# Altium footprint library Texas Instruments Footprints.PcbLib: 429 footprints (part 3 of 32)
Each footprint in its own frame and in the unit in brackets; x right, y up, seen from the top. Pads: shape width x height; smd on the part's side, far side on the other; paste and mask are expansions set on the pad; w line width, h text height; cw(c..) or ccw(c..) is an arc to the next point about the centre after c.
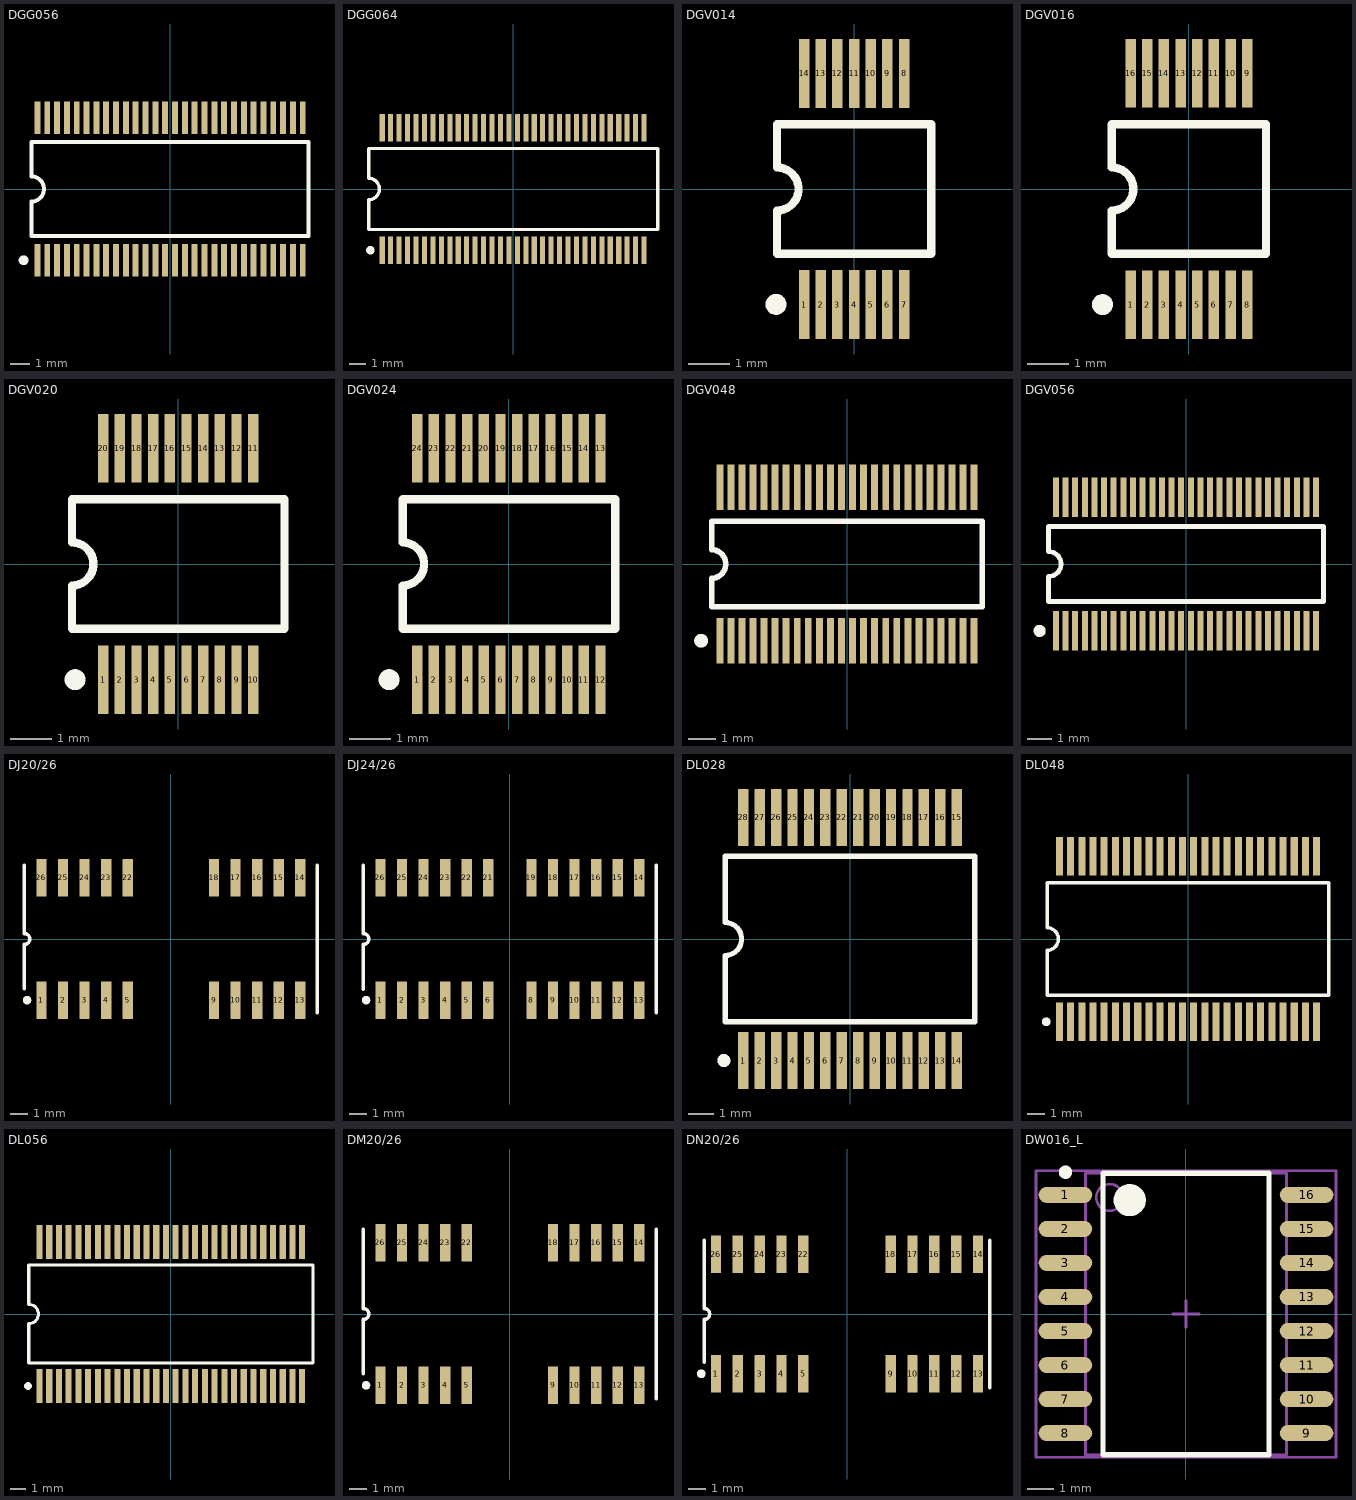
[diagram p2: the footprints below, top view; thin cyan lines are the x and y axes]

## DGG056 [mm] "Shrink Small Outline; 56 Leads; Body Width 6.1 mm; Pitch 0.5 mm"
height 1.2
pads (56):
  rect 0.3x1.65 smd: 1(-6.75,-3.625) 2(-6.25,-3.625) 3(-5.75,-3.625) 4(-5.25,-3.625) 5(-4.75,-3.625) 6(-4.25,-3.625) 7(-3.75,-3.625) 8(-3.25,-3.625) 9(-2.75,-3.625) 10(-2.25,-3.625) 11(-1.75,-3.625) 12(-1.25,-3.625) 13(-0.75,-3.625) 14(-0.25,-3.625) 15(0.25,-3.625) 16(0.75,-3.625) 17(1.25,-3.625) 18(1.75,-3.625) 19(2.25,-3.625) 20(2.75,-3.625) 21(3.25,-3.625) 22(3.75,-3.625) 23(4.25,-3.625) 24(4.75,-3.625) 25(5.25,-3.625) 26(5.75,-3.625) 27(6.25,-3.625) 28(6.75,-3.625) 29(6.75,3.625) 30(6.25,3.625) 31(5.75,3.625) 32(5.25,3.625) 33(4.75,3.625) 34(4.25,3.625) 35(3.75,3.625) 36(3.25,3.625) 37(2.75,3.625) 38(2.25,3.625) 39(1.75,3.625) 40(1.25,3.625) 41(0.75,3.625) 42(0.25,3.625) 43(-0.25,3.625) 44(-0.75,3.625) 45(-1.25,3.625) 46(-1.75,3.625) 47(-2.25,3.625) 48(-2.75,3.625) 49(-3.25,3.625) 50(-3.75,3.625) 51(-4.25,3.625) 52(-4.75,3.625) 53(-5.25,3.625) 54(-5.75,3.625) 55(-6.25,3.625) 56(-6.75,3.625)
Top Overlay:
  circle w0.25: c-7.45,-3.625 r0.125
  lines w0.2: -7.05,-2.4 -7.05,-0.635 ccw(c-7.05,0) -7.05,0.635 -7.05,2.4 7.05,2.4 7.05,-2.4 -7.05,-2.4

## DGG064 [mm] "Shrink Small Outline; 64 Leads; Body Width 6.1 mm; Pitch 0.5 mm"
height 1.2
pads (64):
  rect 0.3x1.65 smd: 1(-7.75,-3.625) 2(-7.25,-3.625) 3(-6.75,-3.625) 4(-6.25,-3.625) 5(-5.75,-3.625) 6(-5.25,-3.625) 7(-4.75,-3.625) 8(-4.25,-3.625) 9(-3.75,-3.625) 10(-3.25,-3.625) 11(-2.75,-3.625) 12(-2.25,-3.625) 13(-1.75,-3.625) 14(-1.25,-3.625) 15(-0.75,-3.625) 16(-0.25,-3.625) 17(0.25,-3.625) 18(0.75,-3.625) 19(1.25,-3.625) 20(1.75,-3.625) 21(2.25,-3.625) 22(2.75,-3.625) 23(3.25,-3.625) 24(3.75,-3.625) 25(4.25,-3.625) 26(4.75,-3.625) 27(5.25,-3.625) 28(5.75,-3.625) 29(6.25,-3.625) 30(6.75,-3.625) 31(7.25,-3.625) 32(7.75,-3.625) 33(7.75,3.625) 34(7.25,3.625) 35(6.75,3.625) 36(6.25,3.625) 37(5.75,3.625) 38(5.25,3.625) 39(4.75,3.625) 40(4.25,3.625) 41(3.75,3.625) 42(3.25,3.625) 43(2.75,3.625) 44(2.25,3.625) 45(1.75,3.625) 46(1.25,3.625) 47(0.75,3.625) 48(0.25,3.625) 49(-0.25,3.625) 50(-0.75,3.625) 51(-1.25,3.625) 52(-1.75,3.625) 53(-2.25,3.625) 54(-2.75,3.625) 55(-3.25,3.625) 56(-3.75,3.625) 57(-4.25,3.625) 58(-4.75,3.625) 59(-5.25,3.625) 60(-5.75,3.625) 61(-6.25,3.625) 62(-6.75,3.625) 63(-7.25,3.625) 64(-7.75,3.625)
Top Overlay:
  circle w0.25: c-8.45,-3.625 r0.125
  lines w0.2: -8.55,-2.4 -8.55,-0.635 ccw(c-8.55,0) -8.55,0.635 -8.55,2.4 8.55,2.4 8.55,-2.4 -8.55,-2.4

## DGV014 [mm] "Shrink Small Outline; 14 Leads; Body Width 4.4 mm; Pitch 0.4 mm"
height 1.2
pads (14):
  rect 0.25x1.65 smd: 1(-1.2,-2.775) 2(-0.8,-2.775) 3(-0.4,-2.775) 4(0,-2.775) 5(0.4,-2.775) 6(0.8,-2.775) 7(1.2,-2.775) 8(1.2,2.775) 9(0.8,2.775) 10(0.4,2.775) 11(0,2.775) 12(-0.4,2.775) 13(-0.8,2.775) 14(-1.2,2.775)
Top Overlay:
  circle w0.25: c-1.875,-2.769 r0.125
  lines w0.2: -1.85,-1.55 -1.85,-0.517 ccw(c-1.85,0) -1.85,0.517 -1.85,1.55 1.85,1.55 1.85,-1.55 -1.85,-1.55

## DGV016 [mm] "Shrink Small Outline; 16 Leads; Body Width 4.4 mm; Pitch 0.4 mm"
height 1.2
pads (16):
  rect 0.25x1.65 smd: 1(-1.4,-2.775) 2(-1,-2.775) 3(-0.6,-2.775) 4(-0.2,-2.775) 5(0.2,-2.775) 6(0.6,-2.775) 7(1,-2.775) 8(1.4,-2.775) 9(1.4,2.775) 10(1,2.775) 11(0.6,2.775) 12(0.2,2.775) 13(-0.2,2.775) 14(-0.6,2.775) 15(-1,2.775) 16(-1.4,2.775)
Top Overlay:
  circle w0.25: c-2.075,-2.775 r0.125
  lines w0.2: -1.85,-1.55 -1.85,-0.517 ccw(c-1.85,0) -1.85,0.517 -1.85,1.55 1.85,1.55 1.85,-1.55 -1.85,-1.55

## DGV020 [mm] "Shrink Small Outline; 20 Leads; Body Width 4.4 mm; Pitch 0.4 mm"
height 1.2
pads (20):
  rect 0.25x1.65 smd: 1(-1.8,-2.775) 2(-1.4,-2.775) 3(-1,-2.775) 4(-0.6,-2.775) 5(-0.2,-2.775) 6(0.2,-2.775) 7(0.6,-2.775) 8(1,-2.775) 9(1.4,-2.775) 10(1.8,-2.775) 11(1.8,2.775) 12(1.4,2.775) 13(1,2.775) 14(0.6,2.775) 15(0.2,2.775) 16(-0.2,2.775) 17(-0.6,2.775) 18(-1,2.775) 19(-1.4,2.775) 20(-1.8,2.775)
Top Overlay:
  circle w0.25: c-2.475,-2.775 r0.125
  lines w0.2: -2.55,-1.55 -2.55,-0.517 ccw(c-2.55,0) -2.55,0.517 -2.55,1.55 2.55,1.55 2.55,-1.55 -2.55,-1.55

## DGV024 [mm] "Shrink Small Outline; 24 Leads; Body Width 4.4 mm; Pitch 0.4 mm"
height 1.2
pads (24):
  rect 0.25x1.65 smd: 1(-2.2,-2.775) 2(-1.8,-2.775) 3(-1.4,-2.775) 4(-1,-2.775) 5(-0.6,-2.775) 6(-0.2,-2.775) 7(0.2,-2.775) 8(0.6,-2.775) 9(1,-2.775) 10(1.4,-2.775) 11(1.8,-2.775) 12(2.2,-2.775) 13(2.2,2.775) 14(1.8,2.775) 15(1.4,2.775) 16(1,2.775) 17(0.6,2.775) 18(0.2,2.775) 19(-0.2,2.775) 20(-0.6,2.775) 21(-1,2.775) 22(-1.4,2.775) 23(-1.8,2.775) 24(-2.2,2.775)
Top Overlay:
  circle w0.25: c-2.875,-2.775 r0.125
  lines w0.2: -2.55,-1.55 2.55,-1.55 2.55,1.55 -2.55,1.55 -2.55,0.517 cw(c-2.55,0) -2.55,-0.517 -2.55,-1.55

## DGV048 [mm] "Shrink Small Outline; 48 Leads; Body Width 4.4 mm; Pitch 0.4 mm"
height 1.2
pads (48):
  rect 0.25x1.65 smd: 1(-4.6,-2.775) 2(-4.2,-2.775) 3(-3.8,-2.775) 4(-3.4,-2.775) 5(-3,-2.775) 6(-2.6,-2.775) 7(-2.2,-2.775) 8(-1.8,-2.775) 9(-1.4,-2.775) 10(-1,-2.775) 11(-0.6,-2.775) 12(-0.2,-2.775) 13(0.2,-2.775) 14(0.6,-2.775) 15(1,-2.775) 16(1.4,-2.775) 17(1.8,-2.775) 18(2.2,-2.775) 19(2.6,-2.775) 20(3,-2.775) 21(3.4,-2.775) 22(3.8,-2.775) 23(4.2,-2.775) 24(4.6,-2.775) 25(4.6,2.775) 26(4.2,2.775) 27(3.8,2.775) 28(3.4,2.775) 29(3,2.775) 30(2.6,2.775) 31(2.2,2.775) 32(1.8,2.775) 33(1.4,2.775) 34(1,2.775) 35(0.6,2.775) 36(0.2,2.775) 37(-0.2,2.775) 38(-0.6,2.775) 39(-1,2.775) 40(-1.4,2.775) 41(-1.8,2.775) 42(-2.2,2.775) 43(-2.6,2.775) 44(-3,2.775) 45(-3.4,2.775) 46(-3.8,2.775) 47(-4.2,2.775) 48(-4.6,2.775)
Top Overlay:
  circle w0.25: c-5.275,-2.775 r0.125
  lines w0.2: -4.9,-1.55 4.9,-1.55 4.9,1.55 -4.9,1.55 -4.9,0.517 cw(c-4.9,0) -4.9,-0.517 -4.9,-1.55

## DGV056 [mm] "Shrink Small Outline; 56 Leads; Body Width 4.4 mm; Pitch 0.4 mm"
height 1.2
pads (56):
  rect 0.25x1.65 smd: 1(-5.4,-2.775) 2(-5,-2.775) 3(-4.6,-2.775) 4(-4.2,-2.775) 5(-3.8,-2.775) 6(-3.4,-2.775) 7(-3,-2.775) 8(-2.6,-2.775) 9(-2.2,-2.775) 10(-1.8,-2.775) 11(-1.4,-2.775) 12(-1,-2.775) 13(-0.6,-2.775) 14(-0.2,-2.775) 15(0.2,-2.775) 16(0.6,-2.775) 17(1,-2.775) 18(1.4,-2.775) 19(1.8,-2.775) 20(2.2,-2.775) 21(2.6,-2.775) 22(3,-2.775) 23(3.4,-2.775) 24(3.8,-2.775) 25(4.2,-2.775) 26(4.6,-2.775) 27(5,-2.775) 28(5.4,-2.775) 29(5.4,2.775) 30(5,2.775) 31(4.6,2.775) 32(4.2,2.775) 33(3.8,2.775) 34(3.4,2.775) 35(3,2.775) 36(2.6,2.775) 37(2.2,2.775) 38(1.8,2.775) 39(1.4,2.775) 40(1,2.775) 41(0.6,2.775) 42(0.2,2.775) 43(-0.2,2.775) 44(-0.6,2.775) 45(-1,2.775) 46(-1.4,2.775) 47(-1.8,2.775) 48(-2.2,2.775) 49(-2.6,2.775) 50(-3,2.775) 51(-3.4,2.775) 52(-3.8,2.775) 53(-4.2,2.775) 54(-4.6,2.775) 55(-5,2.775) 56(-5.4,2.775)
Top Overlay:
  circle w0.25: c-6.075,-2.775 r0.125
  lines w0.2: -5.7,-1.55 5.7,-1.55 5.7,1.55 -5.7,1.55 -5.7,0.517 cw(c-5.7,0) -5.7,-0.517 -5.7,-1.55

## DJ20/26 [mm] "SOJ; 20 Leads; Body Width 7.6 mm; Pitch 1.27 mm"
height 3.76
pads (20):
  rect 0.6x2.2 smd: 1(-7.62,-3.6) 2(-6.35,-3.6) 3(-5.08,-3.6) 4(-3.81,-3.6) 5(-2.54,-3.6) 9(2.54,-3.6) 10(3.81,-3.6) 11(5.08,-3.6) 12(6.35,-3.6) 13(7.62,-3.6) 14(7.62,3.6) 15(6.35,3.6) 16(5.08,3.6) 17(3.81,3.6) 18(2.54,3.6) 22(-2.54,3.6) 23(-3.81,3.6) 24(-5.08,3.6) 25(-6.35,3.6) 26(-7.62,3.6)
Top Overlay:
  circle w0.25: c-8.47,-3.6 r0.125
  lines w0.2: -8.625,-2.925 -8.625,-0.317 ccw(c-8.625,0) -8.625,0.318 -8.625,4.35 ; 8.625,-4.35 8.625,4.35

## DJ24/26 [mm] "SOJ; 24 Leads; Body Width 7.6 mm; Pitch 1.27 mm"
height 3.76
pads (24):
  rect 0.6x2.2 smd: 1(-7.62,-3.6) 2(-6.35,-3.6) 3(-5.08,-3.6) 4(-3.81,-3.6) 5(-2.54,-3.6) 6(-1.27,-3.6) 8(1.27,-3.6) 9(2.54,-3.6) 10(3.81,-3.6) 11(5.08,-3.6) 12(6.35,-3.6) 13(7.62,-3.6) 14(7.62,3.6) 15(6.35,3.6) 16(5.08,3.6) 17(3.81,3.6) 18(2.54,3.6) 19(1.27,3.6) 21(-1.27,3.6) 22(-2.54,3.6) 23(-3.81,3.6) 24(-5.08,3.6) 25(-6.35,3.6) 26(-7.62,3.6)
Top Overlay:
  circle w0.25: c-8.47,-3.6 r0.125
  lines w0.2: -8.625,-2.95 -8.625,-0.318 ccw(c-8.625,0) -8.625,0.318 -8.625,4.35 ; 8.625,-4.35 8.625,4.35

## DL028 [mm] "SSOP; 28 Leads; Body Width 7.5 mm; Pitch 0.635 mm"
height 2.79
pads (28):
  rect 0.4x2.2 smd: 1(-4.127,-4.7) 2(-3.492,-4.7) 3(-2.857,-4.7) 4(-2.222,-4.7) 5(-1.587,-4.7) 6(-0.953,-4.7) 7(-0.318,-4.7) 8(0.318,-4.7) 9(0.953,-4.7) 10(1.587,-4.7) 11(2.222,-4.7) 12(2.857,-4.7) 13(3.492,-4.7) 14(4.127,-4.7) 15(4.127,4.7) 16(3.492,4.7) 17(2.857,4.7) 18(2.222,4.7) 19(1.587,4.7) 20(0.953,4.7) 21(0.318,4.7) 22(-0.318,4.7) 23(-0.953,4.7) 24(-1.587,4.7) 25(-2.222,4.7) 26(-2.857,4.7) 27(-3.492,4.7) 28(-4.127,4.7)
Top Overlay:
  circle w0.25: c-4.878,-4.7 r0.125
  lines w0.2: -4.825,-3.2 -4.825,-0.635 ccw(c-4.825,0) -4.825,0.635 -4.825,3.2 4.825,3.2 4.825,-3.2 -4.825,-3.2

## DL048 [mm] "SSOP; 48 Leads; Body Width 7.5 mm; Pitch 0.635 mm"
height 2.79
pads (48):
  rect 0.4x2.2 smd: 1(-7.302,-4.7) 2(-6.667,-4.7) 3(-6.032,-4.7) 4(-5.397,-4.7) 5(-4.763,-4.7) 6(-4.127,-4.7) 7(-3.492,-4.7) 8(-2.857,-4.7) 9(-2.222,-4.7) 10(-1.587,-4.7) 11(-0.953,-4.7) 12(-0.318,-4.7) 13(0.318,-4.7) 14(0.953,-4.7) 15(1.587,-4.7) 16(2.222,-4.7) 17(2.857,-4.7) 18(3.492,-4.7) 19(4.127,-4.7) 20(4.763,-4.7) 21(5.397,-4.7) 22(6.032,-4.7) 23(6.667,-4.7) 24(7.302,-4.7) 25(7.302,4.7) 26(6.667,4.7) 27(6.032,4.7) 28(5.397,4.7) 29(4.763,4.7) 30(4.127,4.7) 31(3.492,4.7) 32(2.857,4.7) 33(2.222,4.7) 34(1.587,4.7) 35(0.953,4.7) 36(0.318,4.7) 37(-0.318,4.7) 38(-0.953,4.7) 39(-1.587,4.7) 40(-2.222,4.7) 41(-2.857,4.7) 42(-3.492,4.7) 43(-4.127,4.7) 44(-4.763,4.7) 45(-5.397,4.7) 46(-6.032,4.7) 47(-6.667,4.7) 48(-7.302,4.7)
Top Overlay:
  circle w0.25: c-8.053,-4.7 r0.125
  lines w0.2: -8,-3.2 8,-3.2 8,3.2 -8,3.2 -8,0.635 cw(c-8,0) -8,-0.635 -8,-3.2

## DL056 [mm] "SSOP; 56 Leads; Body Width 7.5 mm; Pitch 0.635 mm"
height 2.79
pads (56):
  rect 0.4x2.2 smd: 1(-8.572,-4.7) 2(-7.938,-4.7) 3(-7.302,-4.7) 4(-6.667,-4.7) 5(-6.032,-4.7) 6(-5.397,-4.7) 7(-4.763,-4.7) 8(-4.127,-4.7) 9(-3.492,-4.7) 10(-2.857,-4.7) 11(-2.222,-4.7) 12(-1.587,-4.7) 13(-0.953,-4.7) 14(-0.318,-4.7) 15(0.318,-4.7) 16(0.953,-4.7) 17(1.587,-4.7) 18(2.222,-4.7) 19(2.857,-4.7) 20(3.492,-4.7) 21(4.127,-4.7) 22(4.763,-4.7) 23(5.397,-4.7) 24(6.032,-4.7) 25(6.667,-4.7) 26(7.302,-4.7) 27(7.938,-4.7) 28(8.572,-4.7) 29(8.572,4.7) 30(7.938,4.7) 31(7.302,4.7) 32(6.667,4.7) 33(6.032,4.7) 34(5.397,4.7) 35(4.763,4.7) 36(4.127,4.7) 37(3.492,4.7) 38(2.857,4.7) 39(2.222,4.7) 40(1.587,4.7) 41(0.953,4.7) 42(0.318,4.7) 43(-0.318,4.7) 44(-0.953,4.7) 45(-1.587,4.7) 46(-2.222,4.7) 47(-2.857,4.7) 48(-3.492,4.7) 49(-4.127,4.7) 50(-4.763,4.7) 51(-5.397,4.7) 52(-6.032,4.7) 53(-6.667,4.7) 54(-7.302,4.7) 55(-7.938,4.7) 56(-8.572,4.7)
Top Overlay:
  circle w0.25: c-9.323,-4.7 r0.125
  lines w0.2: -9.275,-3.2 9.275,-3.2 9.275,3.2 -9.275,3.2 -9.275,0.635 cw(c-9.275,0) -9.275,-0.635 -9.275,-3.2

## DM20/26 [mm] "SOJ; 20 Leads; Body Width 8.9 mm; Pitch 1.27 mm"
height 3.76
pads (20):
  rect 0.6x2.2 smd: 1(-7.62,-4.2) 2(-6.35,-4.2) 3(-5.08,-4.2) 4(-3.81,-4.2) 5(-2.54,-4.2) 9(2.54,-4.2) 10(3.81,-4.2) 11(5.08,-4.2) 12(6.35,-4.2) 13(7.62,-4.2) 14(7.62,4.2) 15(6.35,4.2) 16(5.08,4.2) 17(3.81,4.2) 18(2.54,4.2) 22(-2.54,4.2) 23(-3.81,4.2) 24(-5.08,4.2) 25(-6.35,4.2) 26(-7.62,4.2)
Top Overlay:
  circle w0.25: c-8.47,-4.2 r0.125
  lines w0.2: -8.625,-3.525 -8.625,-0.318 ccw(c-8.625,0) -8.625,0.318 -8.625,5 ; 8.625,-5 8.625,5

## DN20/26 [mm] "SOJ; 20 Leads; Body Width 7.5 mm; Pitch 1.27 mm"
height 1.83
pads (20):
  rect 0.6x2.2 smd: 1(-7.62,-3.475) 2(-6.35,-3.475) 3(-5.08,-3.475) 4(-3.81,-3.475) 5(-2.54,-3.475) 9(2.54,-3.475) 10(3.81,-3.475) 11(5.08,-3.475) 12(6.35,-3.475) 13(7.62,-3.475) 14(7.62,3.475) 15(6.35,3.475) 16(5.08,3.475) 17(3.81,3.475) 18(2.54,3.475) 22(-2.54,3.475) 23(-3.81,3.475) 24(-5.08,3.475) 25(-6.35,3.475) 26(-7.62,3.475)
Top Overlay:
  circle w0.25: c-8.47,-3.475 r0.125
  lines w0.2: -8.3,-2.8 -8.3,-0.318 ccw(c-8.3,0) -8.3,0.318 -8.3,4.3 ; 8.3,-4.3 8.3,4.3

## DW016_L [mm] "16-Pin Plastic Small Outline Integrated Circuit 1.27 mm Pitch, IPC High Density"
height 2.65
pads (16):
  oval 2x0.6 smd: 1(-4.5,4.445) 2(-4.5,3.175) 3(-4.5,1.905) 4(-4.5,0.635) 5(-4.5,-0.635) 6(-4.5,-1.905) 7(-4.5,-3.175) 8(-4.5,-4.445) 9(4.5,-4.445) 10(4.5,-3.175) 11(4.5,-1.905) 12(4.5,-0.635) 13(4.5,0.635) 14(4.5,1.905) 15(4.5,3.175) 16(4.5,4.445)
Top Overlay:
  circle w0.6: c-2.1,4.25 r0.3
  circle w0.25: c-4.5,5.295 r0.125
  lines w0.2: -3.1,-5.25 3.1,-5.25 3.1,5.25 -3.1,5.25 -3.1,-5.25
Mechanical 13:
  circle w0.1: c-2.85,4.35 r0.5
  lines w0.1: -3.75,-5.25 3.75,-5.25 3.75,5.25 -3.75,5.25 -3.75,-5.25
Mechanical 15:
  lines w0.1: -0.5,0 0.5,0 ; 0,-0.5 0,0.5 ; -5.6,-5.35 5.6,-5.35 5.6,5.35 -5.6,5.35 -5.6,-5.35
3D body: height 2.65, standoff 0, extent -3.75,-5.25 3.75,5.25